# EAGLE library part HT8955A (library mb3_integrated circuits)
Delay Chip HT8955A: http://smallbear-electronics.mybigcommerce.com/ic-ht8955a/
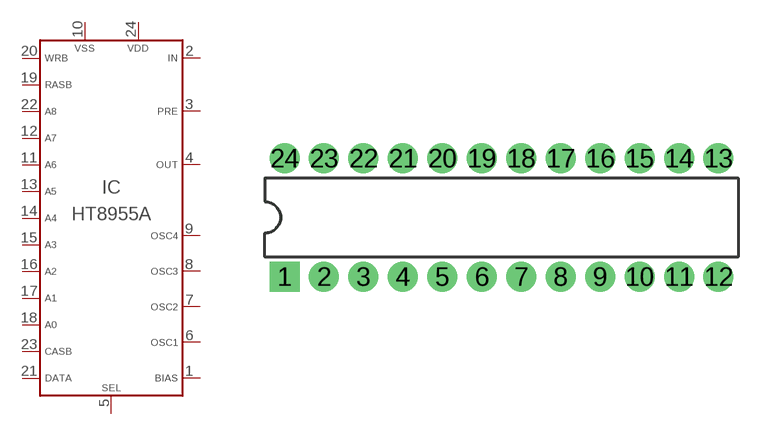
[diagram p16: symbol with the pads of DIP24; footprint DIP24]

Designator prefix IC

## HT8955A  [DIP24]
1  1
2  2
3  3
4  4
5  5
6  6
7  7
8  8
9  9
10  10
11  11
12  12
13  13
14  14
15  15
16  16
17  17
18  18
19  19
20  20
21  21
22  22
23  23
24  24

## Footprint DIP24 (pad centres in mm)
Dual In Line Package
drill 0.9 pad 1.93 square: 1 -13.97,-3.81
drill 0.9 pad 1.93: 2 -11.43,-3.81; 3 -8.89,-3.81; 4 -6.35,-3.81; 5 -3.81,-3.81; 6 -1.27,-3.81; 7 1.27,-3.81; 8 3.81,-3.81; 9 6.35,-3.81; 10 8.89,-3.81; 11 11.43,-3.81; 12 13.97,-3.81; 13 13.97,3.81; 14 11.43,3.81; 15 8.89,3.81; 16 6.35,3.81; 17 3.81,3.81; 18 1.27,3.81; 19 -1.27,3.81; 20 -3.81,3.81; 21 -6.35,3.81; 22 -8.89,3.81; 23 -11.43,3.81; 24 -13.97,3.81